# Altium integrated library Microchip Mixed Signal.IntLib: 765 symbols (part 9 of 16)
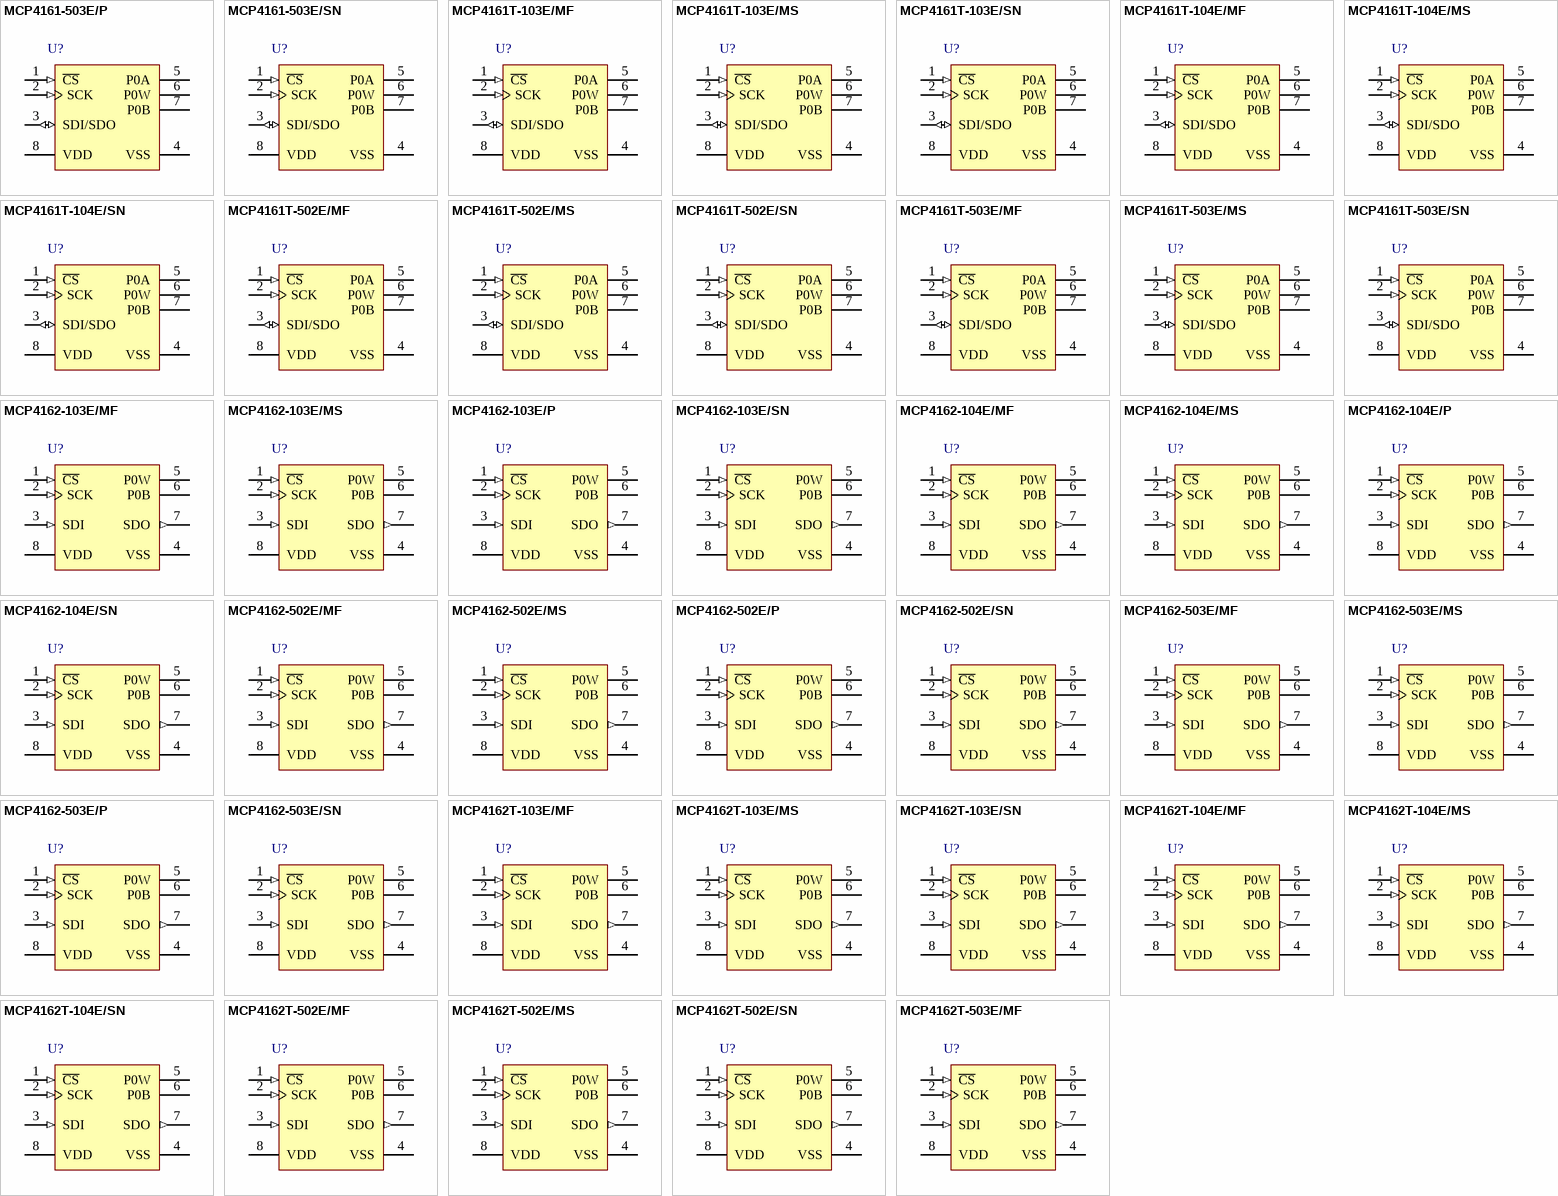
[diagram p31: symbols MCP4161-503E/P to MCP4162T-503E/MF]

## MCP4162T-502E/SN
designator U?
7/8-Bit Single/Dual SPI Digital POT with Non-Volatile Memory, 8-Pin SOIC 150mil, Extended Temperature, Tape and Reel; Published: 29-Jan-2009; DatasheetVersion: revA, Aug-2007; PackageVersion: revAW, Oct-2008; PackageReference: SOIC-SN8; Publisher: Altium Limited; Code_JEDEC: MS-012; Code_IPC: SOIC127P600-8; ComponentLink1Description: Manufacturer Link; ComponentLink1URL: http://www.microchip.com; ComponentLink2Description: Datasheet; ComponentLink2URL: http://ww1.microchip.com/downloads/en/DeviceDoc/22059a.pdf; ComponentLink3Description: Packaging Specification; ComponentLink3URL: http://ww1.microchip.com/downloads/en/PackagingSpec/00049AW.pdf
footprint SOIC-SN8_N (SOIC, 8-Leads, Body 4.9x3.8mm, Pitch 1.27mm, IPC Medium Density)
footprint SOIC-SN8_L (SOIC, 8-Leads, Body 4.9x3.8mm, Pitch 1.27mm, IPC High Density)
footprint SOIC-SN8_M (SOIC, 8-Leads, Body 4.9x3.8mm, Pitch 1.27mm, IPC Low Density)
pins: 1 ~{CS} (in), 2 SCK (in), 3 SDI (in), 4 VSS (power), 5 P0W, 6 P0B, 7 SDO (out), 8 VDD (power)

## MCP4162T-503E/MF
designator U?
7/8-Bit Single/Dual SPI Digital POT with Non-Volatile Memory, 8-Pin DFN, Extended Temperature, Tape and Reel; Published: 29-Jan-2009; DatasheetVersion: revA, Aug-2007; PackageVersion: revAW, Oct-2008; PackageReference: DFN-MF8; Publisher: Altium Limited; ComponentLink1Description: Manufacturer Link; ComponentLink1URL: http://www.microchip.com; ComponentLink2Description: Datasheet; ComponentLink2URL: http://ww1.microchip.com/downloads/en/DeviceDoc/22059a.pdf; ComponentLink3Description: Packaging Specification; ComponentLink3URL: http://ww1.microchip.com/downloads/en/PackagingSpec/00049AW.pdf
footprint DFN-MF8 (SON, 8-Leads, Body 3x3mm, Pitch 0.65mm, Microchip Recommended)
pins: 1 ~{CS} (in), 2 SCK (in), 3 SDI (in), 4 VSS (power), 5 P0W, 6 P0B, 7 SDO (out), 8 VDD (power)

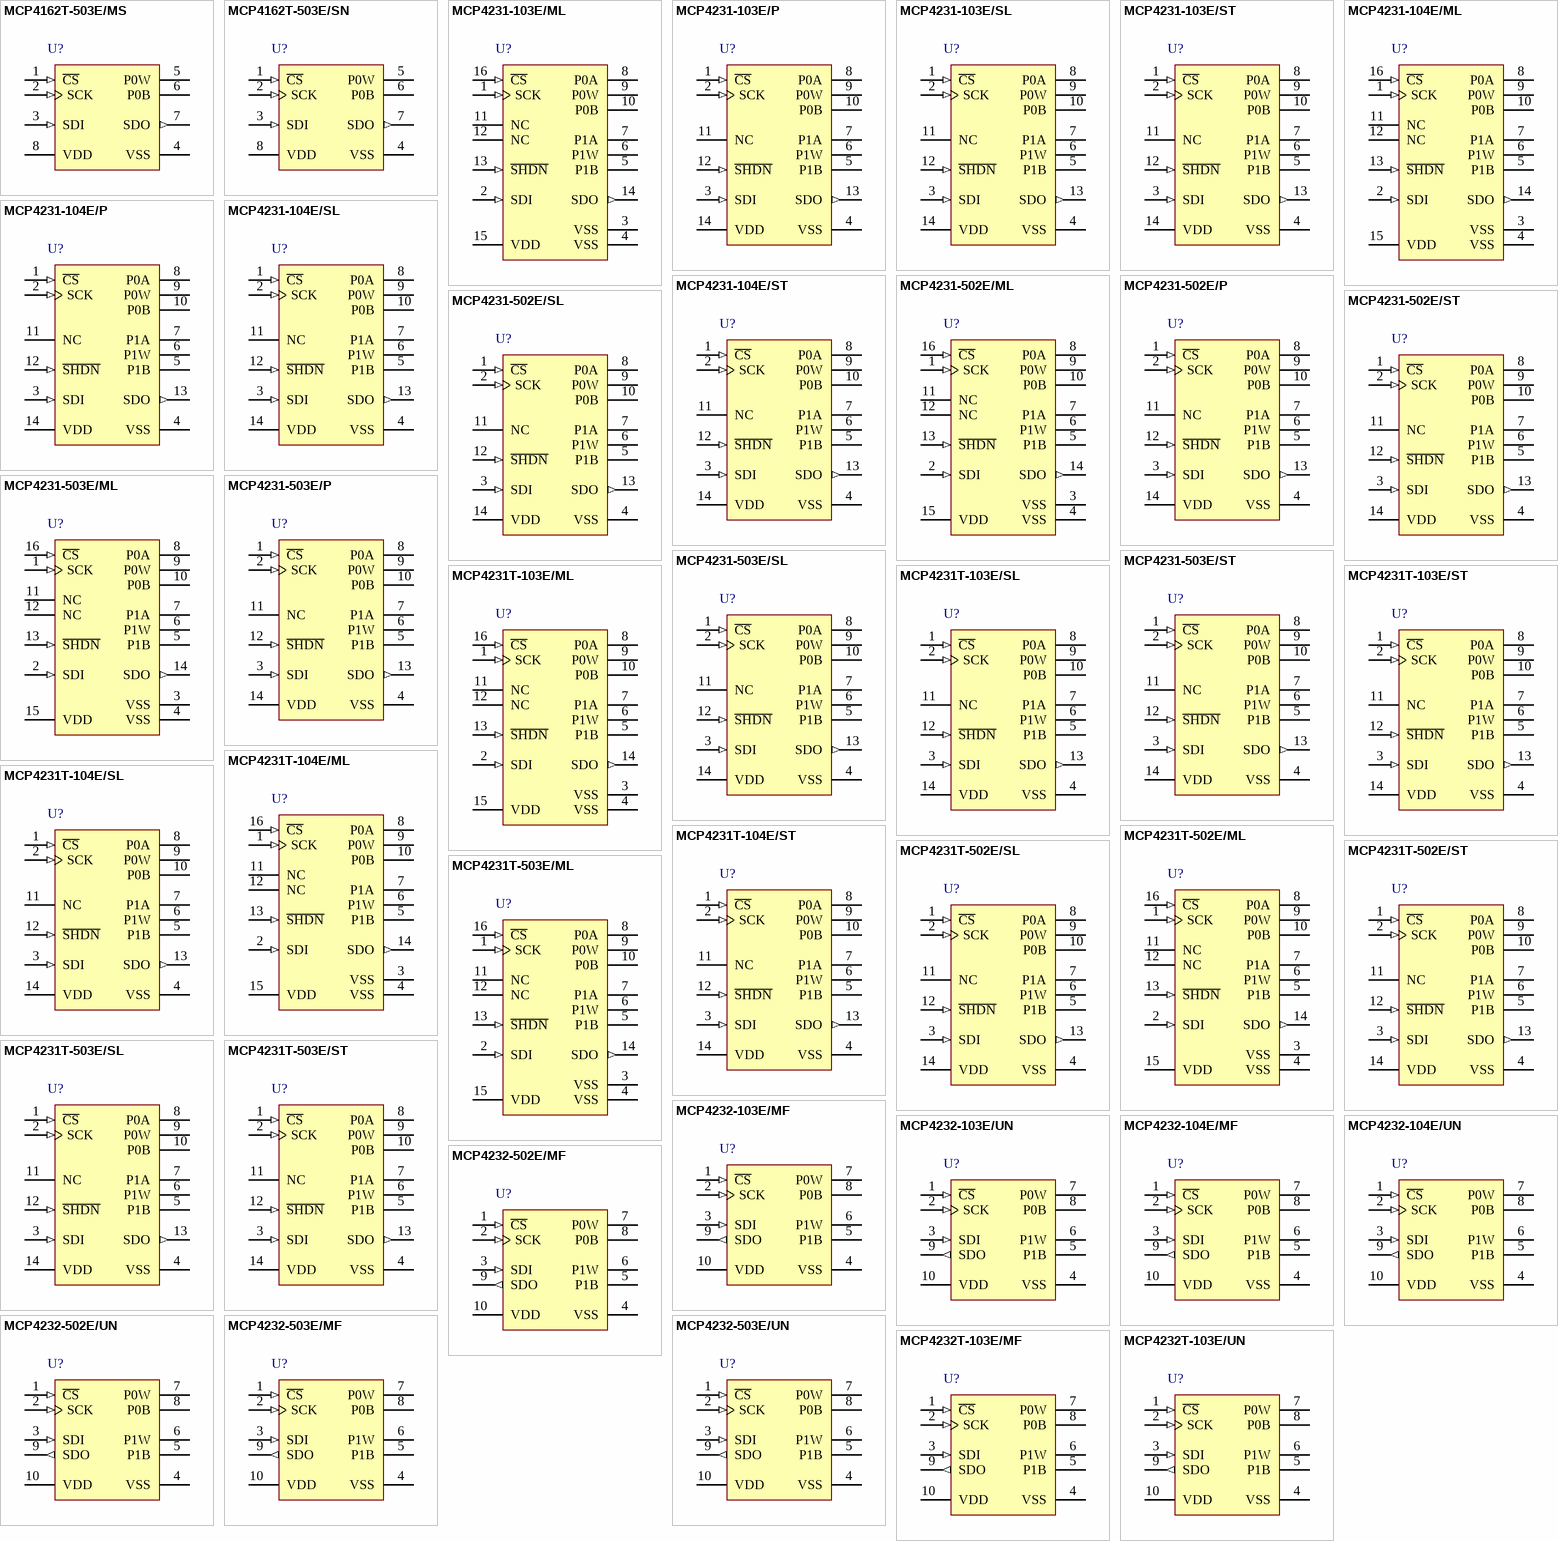
[diagram p11: symbols MCP4162T-503E/MS to MCP4232T-103E/UN]

## MCP4162T-503E/MS
designator U?
7/8-Bit Single/Dual SPI Digital POT with Non-Volatile Memory, 8-Pin MSOP, Extended Temperature, Tape and Reel; Published: 29-Jan-2009; DatasheetVersion: revA, Aug-2007; PackageVersion: revAW, Oct-2008; PackageReference: MSOP-MS8; Publisher: Altium Limited; ComponentLink1Description: Manufacturer Link; ComponentLink1URL: http://www.microchip.com; ComponentLink2Description: Datasheet; ComponentLink2URL: http://ww1.microchip.com/downloads/en/DeviceDoc/22059a.pdf; ComponentLink3Description: Packaging Specification; ComponentLink3URL: http://ww1.microchip.com/downloads/en/PackagingSpec/00049AW.pdf
footprint MSOP-MS8_N (TSOP, 8-Leads, Body 3x3mm, Pitch 0.65mm, IPC Medium Density)
footprint MSOP-MS8_L (TSOP, 8-Leads, Body 3x3mm, Pitch 0.65mm, IPC High Density)
footprint MSOP-MS8_M (TSOP, 8-Leads, Body 3x3mm, Pitch 0.65mm, IPC Low Density)
pins: 1 ~{CS} (in), 2 SCK (in), 3 SDI (in), 4 VSS (power), 5 P0W, 6 P0B, 7 SDO (out), 8 VDD (power)

## MCP4162T-503E/SN
designator U?
7/8-Bit Single/Dual SPI Digital POT with Non-Volatile Memory, 8-Pin SOIC 150mil, Extended Temperature, Tape and Reel; Published: 29-Jan-2009; DatasheetVersion: revA, Aug-2007; PackageVersion: revAW, Oct-2008; PackageReference: SOIC-SN8; Publisher: Altium Limited; Code_JEDEC: MS-012; Code_IPC: SOIC127P600-8; ComponentLink1Description: Manufacturer Link; ComponentLink1URL: http://www.microchip.com; ComponentLink2Description: Datasheet; ComponentLink2URL: http://ww1.microchip.com/downloads/en/DeviceDoc/22059a.pdf; ComponentLink3Description: Packaging Specification; ComponentLink3URL: http://ww1.microchip.com/downloads/en/PackagingSpec/00049AW.pdf
footprint SOIC-SN8_N (SOIC, 8-Leads, Body 4.9x3.8mm, Pitch 1.27mm, IPC Medium Density)
footprint SOIC-SN8_L (SOIC, 8-Leads, Body 4.9x3.8mm, Pitch 1.27mm, IPC High Density)
footprint SOIC-SN8_M (SOIC, 8-Leads, Body 4.9x3.8mm, Pitch 1.27mm, IPC Low Density)
pins: 1 ~{CS} (in), 2 SCK (in), 3 SDI (in), 4 VSS (power), 5 P0W, 6 P0B, 7 SDO (out), 8 VDD (power)

## MCP4231-103E/ML
designator U?
7/8-Bit Single/Dual SPI Digital POT with Volatile Memory, 16-Pin QFN, Extended Temperature; Published: 29-Jan-2009; DatasheetVersion: revA, Sep-2007; PackageVersion: revAW, Oct-2008; PackageReference: QFN-ML16; Publisher: Altium Limited; Code_JEDEC: MO-220; Code_IPC: QFN65P400X400-16V2; ComponentLink1Description: Manufacturer Link; ComponentLink1URL: http://www.microchip.com; ComponentLink2Description: Datasheet; ComponentLink2URL: http://ww1.microchip.com/downloads/en/DeviceDoc/22060a.pdf; ComponentLink3Description: Packaging Specification; ComponentLink3URL: http://ww1.microchip.com/downloads/en/PackagingSpec/00049AW.pdf
footprint QFN-ML16_N (QFN, 16-Leads, Body 4x4 mm, Pitch 0.65mm, IPC Medium Density)
footprint QFN-ML16_L (QFN, 16-Leads, Body 4x4 mm, Pitch 0.65mm, IPC High Density)
footprint QFN-ML16_M (QFN, 16-Leads, Body 4x4 mm, Pitch 0.65mm, IPC Low Density)
pins: 1 SCK (in), 2 SDI (in), 3 VSS (power), 4 VSS (power), 5 P1B, 6 P1W, 7 P1A, 8 P0A, 9 P0W, 10 P0B, 11 NC, 12 NC, 13 ~{SHDN} (in), 14 SDO (out), 15 VDD (power), 16 ~{CS} (in)

## MCP4231-103E/P
designator U?
7/8-Bit Single/Dual SPI Digital POT with Volatile Memory, 14-Pin PDIP, Extended Temperature; Published: 29-Jan-2009; DatasheetVersion: revA, Sep-2007; PackageVersion: revAW, Oct-2008; PackageReference: PDIP300-P14; Publisher: Altium Limited; ComponentLink1Description: Manufacturer Link; ComponentLink1URL: http://www.microchip.com; ComponentLink2Description: Datasheet; ComponentLink2URL: http://ww1.microchip.com/downloads/en/DeviceDoc/22060a.pdf; ComponentLink3Description: Packaging Specification; ComponentLink3URL: http://ww1.microchip.com/downloads/en/PackagingSpec/00049AW.pdf
footprint PDIP300-P14 (DIP, 14-Leads, Row Spacing 7.62mm, Pitch 2.54mm, Body 19.2x6.6mm)
pins: 1 ~{CS} (in), 2 SCK (in), 3 SDI (in), 4 VSS (power), 5 P1B, 6 P1W, 7 P1A, 8 P0A, 9 P0W, 10 P0B, 11 NC, 12 ~{SHDN} (in), 13 SDO (out), 14 VDD (power)

## MCP4231-103E/SL
designator U?
7/8-Bit Single/Dual SPI Digital POT with Volatile Memory, 14-Pin SOIC 150mil, Extended Temperature; Published: 29-Jan-2009; DatasheetVersion: revA, Sep-2007; PackageVersion: revAW, Oct-2008; PackageReference: SOIC-SL14; Publisher: Altium Limited; Code_JEDEC: MS-012-AB; Code_IPC: SOIC127P600-14; ComponentLink1Description: Manufacturer Link; ComponentLink1URL: http://www.microchip.com; ComponentLink2Description: Datasheet; ComponentLink2URL: http://ww1.microchip.com/downloads/en/DeviceDoc/22060a.pdf; ComponentLink3Description: Packaging Specification; ComponentLink3URL: http://ww1.microchip.com/downloads/en/PackagingSpec/00049AW.pdf
footprint SOIC-SL14_N (SOIC, 14-Leads, Body 8.7x3.9mm, Pitch 1.27mm, IPC Medium Density)
footprint SOIC-SL14_L (SOIC, 14-Leads, Body 8.7x3.9mm, Pitch 1.27mm, IPC High Density)
footprint SOIC-SL14_M (SOIC, 14-Leads, Body 8.7x3.9mm, Pitch 1.27mm, IPC Low Density)
pins: 1 ~{CS} (in), 2 SCK (in), 3 SDI (in), 4 VSS (power), 5 P1B, 6 P1W, 7 P1A, 8 P0A, 9 P0W, 10 P0B, 11 NC, 12 ~{SHDN} (in), 13 SDO (out), 14 VDD (power)

## MCP4231-103E/ST
designator U?
7/8-Bit Single/Dual SPI Digital POT with Volatile Memory, 14-Pin TSSOP, Extended Temperature; Published: 29-Jan-2009; DatasheetVersion: revA, Sep-2007; PackageVersion: revAW, Oct-2008; PackageReference: TSSOP-ST14; Publisher: Altium Limited; ComponentLink1Description: Manufacturer Link; ComponentLink1URL: http://www.microchip.com; ComponentLink2Description: Datasheet; ComponentLink2URL: http://ww1.microchip.com/downloads/en/DeviceDoc/22060a.pdf; ComponentLink3Description: Packaging Specification; ComponentLink3URL: http://ww1.microchip.com/downloads/en/PackagingSpec/00049AW.pdf
footprint TSSOP-ST14_N (TSOP, 14-Leads, Body 5x4.4mm, Pitch 0.65mm, IPC Medium Density)
footprint TSSOP-ST14_L (TSOP, 14-Leads, Body 5x4.4mm, Pitch 0.65mm, IPC High Density)
footprint TSSOP-ST14_M (TSOP, 14-Leads, Body 5x4.4mm, Pitch 0.65mm, IPC Low Density)
pins: 1 ~{CS} (in), 2 SCK (in), 3 SDI (in), 4 VSS (power), 5 P1B, 6 P1W, 7 P1A, 8 P0A, 9 P0W, 10 P0B, 11 NC, 12 ~{SHDN} (in), 13 SDO (out), 14 VDD (power)

## MCP4231-104E/ML
designator U?
7/8-Bit Single/Dual SPI Digital POT with Volatile Memory, 16-Pin QFN, Extended Temperature; Published: 29-Jan-2009; DatasheetVersion: revA, Sep-2007; PackageVersion: revAW, Oct-2008; PackageReference: QFN-ML16; Publisher: Altium Limited; Code_JEDEC: MO-220; Code_IPC: QFN65P400X400-16V2; ComponentLink1Description: Manufacturer Link; ComponentLink1URL: http://www.microchip.com; ComponentLink2Description: Datasheet; ComponentLink2URL: http://ww1.microchip.com/downloads/en/DeviceDoc/22060a.pdf; ComponentLink3Description: Packaging Specification; ComponentLink3URL: http://ww1.microchip.com/downloads/en/PackagingSpec/00049AW.pdf
footprint QFN-ML16_N (QFN, 16-Leads, Body 4x4 mm, Pitch 0.65mm, IPC Medium Density)
footprint QFN-ML16_L (QFN, 16-Leads, Body 4x4 mm, Pitch 0.65mm, IPC High Density)
footprint QFN-ML16_M (QFN, 16-Leads, Body 4x4 mm, Pitch 0.65mm, IPC Low Density)
pins: 1 SCK (in), 2 SDI (in), 3 VSS (power), 4 VSS (power), 5 P1B, 6 P1W, 7 P1A, 8 P0A, 9 P0W, 10 P0B, 11 NC, 12 NC, 13 ~{SHDN} (in), 14 SDO (out), 15 VDD (power), 16 ~{CS} (in)

## MCP4231-104E/P
designator U?
7/8-Bit Single/Dual SPI Digital POT with Volatile Memory, 14-Pin PDIP, Extended Temperature; Published: 29-Jan-2009; DatasheetVersion: revA, Sep-2007; PackageVersion: revAW, Oct-2008; PackageReference: PDIP300-P14; Publisher: Altium Limited; ComponentLink1Description: Manufacturer Link; ComponentLink1URL: http://www.microchip.com; ComponentLink2Description: Datasheet; ComponentLink2URL: http://ww1.microchip.com/downloads/en/DeviceDoc/22060a.pdf; ComponentLink3Description: Packaging Specification; ComponentLink3URL: http://ww1.microchip.com/downloads/en/PackagingSpec/00049AW.pdf
footprint PDIP300-P14 (DIP, 14-Leads, Row Spacing 7.62mm, Pitch 2.54mm, Body 19.2x6.6mm)
pins: 1 ~{CS} (in), 2 SCK (in), 3 SDI (in), 4 VSS (power), 5 P1B, 6 P1W, 7 P1A, 8 P0A, 9 P0W, 10 P0B, 11 NC, 12 ~{SHDN} (in), 13 SDO (out), 14 VDD (power)

## MCP4231-104E/SL
designator U?
7/8-Bit Single/Dual SPI Digital POT with Volatile Memory, 14-Pin SOIC 150mil, Extended Temperature; Published: 29-Jan-2009; DatasheetVersion: revA, Sep-2007; PackageVersion: revAW, Oct-2008; PackageReference: SOIC-SL14; Publisher: Altium Limited; Code_JEDEC: MS-012-AB; Code_IPC: SOIC127P600-14; ComponentLink1Description: Manufacturer Link; ComponentLink1URL: http://www.microchip.com; ComponentLink2Description: Datasheet; ComponentLink2URL: http://ww1.microchip.com/downloads/en/DeviceDoc/22060a.pdf; ComponentLink3Description: Packaging Specification; ComponentLink3URL: http://ww1.microchip.com/downloads/en/PackagingSpec/00049AW.pdf
footprint SOIC-SL14_N (SOIC, 14-Leads, Body 8.7x3.9mm, Pitch 1.27mm, IPC Medium Density)
footprint SOIC-SL14_L (SOIC, 14-Leads, Body 8.7x3.9mm, Pitch 1.27mm, IPC High Density)
footprint SOIC-SL14_M (SOIC, 14-Leads, Body 8.7x3.9mm, Pitch 1.27mm, IPC Low Density)
pins: 1 ~{CS} (in), 2 SCK (in), 3 SDI (in), 4 VSS (power), 5 P1B, 6 P1W, 7 P1A, 8 P0A, 9 P0W, 10 P0B, 11 NC, 12 ~{SHDN} (in), 13 SDO (out), 14 VDD (power)

## MCP4231-104E/ST
designator U?
7/8-Bit Single/Dual SPI Digital POT with Volatile Memory, 14-Pin TSSOP, Extended Temperature; Published: 29-Jan-2009; DatasheetVersion: revA, Sep-2007; PackageVersion: revAW, Oct-2008; PackageReference: TSSOP-ST14; Publisher: Altium Limited; ComponentLink1Description: Manufacturer Link; ComponentLink1URL: http://www.microchip.com; ComponentLink2Description: Datasheet; ComponentLink2URL: http://ww1.microchip.com/downloads/en/DeviceDoc/22060a.pdf; ComponentLink3Description: Packaging Specification; ComponentLink3URL: http://ww1.microchip.com/downloads/en/PackagingSpec/00049AW.pdf
footprint TSSOP-ST14_N (TSOP, 14-Leads, Body 5x4.4mm, Pitch 0.65mm, IPC Medium Density)
footprint TSSOP-ST14_L (TSOP, 14-Leads, Body 5x4.4mm, Pitch 0.65mm, IPC High Density)
footprint TSSOP-ST14_M (TSOP, 14-Leads, Body 5x4.4mm, Pitch 0.65mm, IPC Low Density)
pins: 1 ~{CS} (in), 2 SCK (in), 3 SDI (in), 4 VSS (power), 5 P1B, 6 P1W, 7 P1A, 8 P0A, 9 P0W, 10 P0B, 11 NC, 12 ~{SHDN} (in), 13 SDO (out), 14 VDD (power)

## MCP4231-502E/ML
designator U?
7/8-Bit Single/Dual SPI Digital POT with Volatile Memory, 16-Pin QFN, Extended Temperature; Published: 29-Jan-2009; DatasheetVersion: revA, Sep-2007; PackageVersion: revAW, Oct-2008; PackageReference: QFN-ML16; Publisher: Altium Limited; Code_JEDEC: MO-220; Code_IPC: QFN65P400X400-16V2; ComponentLink1Description: Manufacturer Link; ComponentLink1URL: http://www.microchip.com; ComponentLink2Description: Datasheet; ComponentLink2URL: http://ww1.microchip.com/downloads/en/DeviceDoc/22060a.pdf; ComponentLink3Description: Packaging Specification; ComponentLink3URL: http://ww1.microchip.com/downloads/en/PackagingSpec/00049AW.pdf
footprint QFN-ML16_N (QFN, 16-Leads, Body 4x4 mm, Pitch 0.65mm, IPC Medium Density)
footprint QFN-ML16_L (QFN, 16-Leads, Body 4x4 mm, Pitch 0.65mm, IPC High Density)
footprint QFN-ML16_M (QFN, 16-Leads, Body 4x4 mm, Pitch 0.65mm, IPC Low Density)
pins: 1 SCK (in), 2 SDI (in), 3 VSS (power), 4 VSS (power), 5 P1B, 6 P1W, 7 P1A, 8 P0A, 9 P0W, 10 P0B, 11 NC, 12 NC, 13 ~{SHDN} (in), 14 SDO (out), 15 VDD (power), 16 ~{CS} (in)

## MCP4231-502E/P
designator U?
7/8-Bit Single/Dual SPI Digital POT with Volatile Memory, 14-Pin PDIP, Extended Temperature; Published: 29-Jan-2009; DatasheetVersion: revA, Sep-2007; PackageVersion: revAW, Oct-2008; PackageReference: PDIP300-P14; Publisher: Altium Limited; ComponentLink1Description: Manufacturer Link; ComponentLink1URL: http://www.microchip.com; ComponentLink2Description: Datasheet; ComponentLink2URL: http://ww1.microchip.com/downloads/en/DeviceDoc/22060a.pdf; ComponentLink3Description: Packaging Specification; ComponentLink3URL: http://ww1.microchip.com/downloads/en/PackagingSpec/00049AW.pdf
footprint PDIP300-P14 (DIP, 14-Leads, Row Spacing 7.62mm, Pitch 2.54mm, Body 19.2x6.6mm)
pins: 1 ~{CS} (in), 2 SCK (in), 3 SDI (in), 4 VSS (power), 5 P1B, 6 P1W, 7 P1A, 8 P0A, 9 P0W, 10 P0B, 11 NC, 12 ~{SHDN} (in), 13 SDO (out), 14 VDD (power)

## MCP4231-502E/SL
designator U?
7/8-Bit Single/Dual SPI Digital POT with Volatile Memory, 14-Pin SOIC 150mil, Extended Temperature; Published: 29-Jan-2009; DatasheetVersion: revA, Sep-2007; PackageVersion: revAW, Oct-2008; PackageReference: SOIC-SL14; Publisher: Altium Limited; Code_JEDEC: MS-012-AB; Code_IPC: SOIC127P600-14; ComponentLink1Description: Manufacturer Link; ComponentLink1URL: http://www.microchip.com; ComponentLink2Description: Datasheet; ComponentLink2URL: http://ww1.microchip.com/downloads/en/DeviceDoc/22060a.pdf; ComponentLink3Description: Packaging Specification; ComponentLink3URL: http://ww1.microchip.com/downloads/en/PackagingSpec/00049AW.pdf
footprint SOIC-SL14_N (SOIC, 14-Leads, Body 8.7x3.9mm, Pitch 1.27mm, IPC Medium Density)
footprint SOIC-SL14_L (SOIC, 14-Leads, Body 8.7x3.9mm, Pitch 1.27mm, IPC High Density)
footprint SOIC-SL14_M (SOIC, 14-Leads, Body 8.7x3.9mm, Pitch 1.27mm, IPC Low Density)
pins: 1 ~{CS} (in), 2 SCK (in), 3 SDI (in), 4 VSS (power), 5 P1B, 6 P1W, 7 P1A, 8 P0A, 9 P0W, 10 P0B, 11 NC, 12 ~{SHDN} (in), 13 SDO (out), 14 VDD (power)

## MCP4231-502E/ST
designator U?
7/8-Bit Single/Dual SPI Digital POT with Volatile Memory, 14-Pin TSSOP, Extended Temperature; Published: 29-Jan-2009; DatasheetVersion: revA, Sep-2007; PackageVersion: revAW, Oct-2008; PackageReference: TSSOP-ST14; Publisher: Altium Limited; ComponentLink1Description: Manufacturer Link; ComponentLink1URL: http://www.microchip.com; ComponentLink2Description: Datasheet; ComponentLink2URL: http://ww1.microchip.com/downloads/en/DeviceDoc/22060a.pdf; ComponentLink3Description: Packaging Specification; ComponentLink3URL: http://ww1.microchip.com/downloads/en/PackagingSpec/00049AW.pdf
footprint TSSOP-ST14_N (TSOP, 14-Leads, Body 5x4.4mm, Pitch 0.65mm, IPC Medium Density)
footprint TSSOP-ST14_L (TSOP, 14-Leads, Body 5x4.4mm, Pitch 0.65mm, IPC High Density)
footprint TSSOP-ST14_M (TSOP, 14-Leads, Body 5x4.4mm, Pitch 0.65mm, IPC Low Density)
pins: 1 ~{CS} (in), 2 SCK (in), 3 SDI (in), 4 VSS (power), 5 P1B, 6 P1W, 7 P1A, 8 P0A, 9 P0W, 10 P0B, 11 NC, 12 ~{SHDN} (in), 13 SDO (out), 14 VDD (power)

## MCP4231-503E/ML
designator U?
7/8-Bit Single/Dual SPI Digital POT with Volatile Memory, 16-Pin QFN, Extended Temperature; Published: 29-Jan-2009; DatasheetVersion: revA, Sep-2007; PackageVersion: revAW, Oct-2008; PackageReference: QFN-ML16; Publisher: Altium Limited; Code_JEDEC: MO-220; Code_IPC: QFN65P400X400-16V2; ComponentLink1Description: Manufacturer Link; ComponentLink1URL: http://www.microchip.com; ComponentLink2Description: Datasheet; ComponentLink2URL: http://ww1.microchip.com/downloads/en/DeviceDoc/22060a.pdf; ComponentLink3Description: Packaging Specification; ComponentLink3URL: http://ww1.microchip.com/downloads/en/PackagingSpec/00049AW.pdf
footprint QFN-ML16_N (QFN, 16-Leads, Body 4x4 mm, Pitch 0.65mm, IPC Medium Density)
footprint QFN-ML16_L (QFN, 16-Leads, Body 4x4 mm, Pitch 0.65mm, IPC High Density)
footprint QFN-ML16_M (QFN, 16-Leads, Body 4x4 mm, Pitch 0.65mm, IPC Low Density)
pins: 1 SCK (in), 2 SDI (in), 3 VSS (power), 4 VSS (power), 5 P1B, 6 P1W, 7 P1A, 8 P0A, 9 P0W, 10 P0B, 11 NC, 12 NC, 13 ~{SHDN} (in), 14 SDO (out), 15 VDD (power), 16 ~{CS} (in)

## MCP4231-503E/P
designator U?
7/8-Bit Single/Dual SPI Digital POT with Volatile Memory, 14-Pin PDIP, Extended Temperature; Published: 29-Jan-2009; DatasheetVersion: revA, Sep-2007; PackageVersion: revAW, Oct-2008; PackageReference: PDIP300-P14; Publisher: Altium Limited; ComponentLink1Description: Manufacturer Link; ComponentLink1URL: http://www.microchip.com; ComponentLink2Description: Datasheet; ComponentLink2URL: http://ww1.microchip.com/downloads/en/DeviceDoc/22060a.pdf; ComponentLink3Description: Packaging Specification; ComponentLink3URL: http://ww1.microchip.com/downloads/en/PackagingSpec/00049AW.pdf
footprint PDIP300-P14 (DIP, 14-Leads, Row Spacing 7.62mm, Pitch 2.54mm, Body 19.2x6.6mm)
pins: 1 ~{CS} (in), 2 SCK (in), 3 SDI (in), 4 VSS (power), 5 P1B, 6 P1W, 7 P1A, 8 P0A, 9 P0W, 10 P0B, 11 NC, 12 ~{SHDN} (in), 13 SDO (out), 14 VDD (power)

## MCP4231-503E/SL
designator U?
7/8-Bit Single/Dual SPI Digital POT with Volatile Memory, 14-Pin SOIC 150mil, Extended Temperature; Published: 29-Jan-2009; DatasheetVersion: revA, Sep-2007; PackageVersion: revAW, Oct-2008; PackageReference: SOIC-SL14; Publisher: Altium Limited; Code_JEDEC: MS-012-AB; Code_IPC: SOIC127P600-14; ComponentLink1Description: Manufacturer Link; ComponentLink1URL: http://www.microchip.com; ComponentLink2Description: Datasheet; ComponentLink2URL: http://ww1.microchip.com/downloads/en/DeviceDoc/22060a.pdf; ComponentLink3Description: Packaging Specification; ComponentLink3URL: http://ww1.microchip.com/downloads/en/PackagingSpec/00049AW.pdf
footprint SOIC-SL14_N (SOIC, 14-Leads, Body 8.7x3.9mm, Pitch 1.27mm, IPC Medium Density)
footprint SOIC-SL14_L (SOIC, 14-Leads, Body 8.7x3.9mm, Pitch 1.27mm, IPC High Density)
footprint SOIC-SL14_M (SOIC, 14-Leads, Body 8.7x3.9mm, Pitch 1.27mm, IPC Low Density)
pins: 1 ~{CS} (in), 2 SCK (in), 3 SDI (in), 4 VSS (power), 5 P1B, 6 P1W, 7 P1A, 8 P0A, 9 P0W, 10 P0B, 11 NC, 12 ~{SHDN} (in), 13 SDO (out), 14 VDD (power)

## MCP4231-503E/ST
designator U?
7/8-Bit Single/Dual SPI Digital POT with Volatile Memory, 14-Pin TSSOP, Extended Temperature; Published: 29-Jan-2009; DatasheetVersion: revA, Sep-2007; PackageVersion: revAW, Oct-2008; PackageReference: TSSOP-ST14; Publisher: Altium Limited; ComponentLink1Description: Manufacturer Link; ComponentLink1URL: http://www.microchip.com; ComponentLink2Description: Datasheet; ComponentLink2URL: http://ww1.microchip.com/downloads/en/DeviceDoc/22060a.pdf; ComponentLink3Description: Packaging Specification; ComponentLink3URL: http://ww1.microchip.com/downloads/en/PackagingSpec/00049AW.pdf
footprint TSSOP-ST14_N (TSOP, 14-Leads, Body 5x4.4mm, Pitch 0.65mm, IPC Medium Density)
footprint TSSOP-ST14_L (TSOP, 14-Leads, Body 5x4.4mm, Pitch 0.65mm, IPC High Density)
footprint TSSOP-ST14_M (TSOP, 14-Leads, Body 5x4.4mm, Pitch 0.65mm, IPC Low Density)
pins: 1 ~{CS} (in), 2 SCK (in), 3 SDI (in), 4 VSS (power), 5 P1B, 6 P1W, 7 P1A, 8 P0A, 9 P0W, 10 P0B, 11 NC, 12 ~{SHDN} (in), 13 SDO (out), 14 VDD (power)

## MCP4231T-103E/ML
designator U?
7/8-Bit Single/Dual SPI Digital POT with Volatile Memory, 16-Pin QFN, Extended Temperature, Tape and Reel; Published: 29-Jan-2009; DatasheetVersion: revA, Sep-2007; PackageVersion: revAW, Oct-2008; PackageReference: QFN-ML16; Publisher: Altium Limited; Code_JEDEC: MO-220; Code_IPC: QFN65P400X400-16V2; ComponentLink1Description: Manufacturer Link; ComponentLink1URL: http://www.microchip.com; ComponentLink2Description: Datasheet; ComponentLink2URL: http://ww1.microchip.com/downloads/en/DeviceDoc/22060a.pdf; ComponentLink3Description: Packaging Specification; ComponentLink3URL: http://ww1.microchip.com/downloads/en/PackagingSpec/00049AW.pdf
footprint QFN-ML16_N (QFN, 16-Leads, Body 4x4 mm, Pitch 0.65mm, IPC Medium Density)
footprint QFN-ML16_L (QFN, 16-Leads, Body 4x4 mm, Pitch 0.65mm, IPC High Density)
footprint QFN-ML16_M (QFN, 16-Leads, Body 4x4 mm, Pitch 0.65mm, IPC Low Density)
pins: 1 SCK (in), 2 SDI (in), 3 VSS (power), 4 VSS (power), 5 P1B, 6 P1W, 7 P1A, 8 P0A, 9 P0W, 10 P0B, 11 NC, 12 NC, 13 ~{SHDN} (in), 14 SDO (out), 15 VDD (power), 16 ~{CS} (in)

## MCP4231T-103E/SL
designator U?
7/8-Bit Single/Dual SPI Digital POT with Volatile Memory, 14-Pin SOIC 150mil, Extended Temperature, Tape and Reel; Published: 29-Jan-2009; DatasheetVersion: revA, Sep-2007; PackageVersion: revAW, Oct-2008; PackageReference: SOIC-SL14; Publisher: Altium Limited; Code_JEDEC: MS-012-AB; Code_IPC: SOIC127P600-14; ComponentLink1Description: Manufacturer Link; ComponentLink1URL: http://www.microchip.com; ComponentLink2Description: Datasheet; ComponentLink2URL: http://ww1.microchip.com/downloads/en/DeviceDoc/22060a.pdf; ComponentLink3Description: Packaging Specification; ComponentLink3URL: http://ww1.microchip.com/downloads/en/PackagingSpec/00049AW.pdf
footprint SOIC-SL14_N (SOIC, 14-Leads, Body 8.7x3.9mm, Pitch 1.27mm, IPC Medium Density)
footprint SOIC-SL14_L (SOIC, 14-Leads, Body 8.7x3.9mm, Pitch 1.27mm, IPC High Density)
footprint SOIC-SL14_M (SOIC, 14-Leads, Body 8.7x3.9mm, Pitch 1.27mm, IPC Low Density)
pins: 1 ~{CS} (in), 2 SCK (in), 3 SDI (in), 4 VSS (power), 5 P1B, 6 P1W, 7 P1A, 8 P0A, 9 P0W, 10 P0B, 11 NC, 12 ~{SHDN} (in), 13 SDO (out), 14 VDD (power)

## MCP4231T-103E/ST
designator U?
7/8-Bit Single/Dual SPI Digital POT with Volatile Memory, 14-Pin TSSOP, Extended Temperature, Tape and Reel; Published: 29-Jan-2009; DatasheetVersion: revA, Sep-2007; PackageVersion: revAW, Oct-2008; PackageReference: TSSOP-ST14; Publisher: Altium Limited; ComponentLink1Description: Manufacturer Link; ComponentLink1URL: http://www.microchip.com; ComponentLink2Description: Datasheet; ComponentLink2URL: http://ww1.microchip.com/downloads/en/DeviceDoc/22060a.pdf; ComponentLink3Description: Packaging Specification; ComponentLink3URL: http://ww1.microchip.com/downloads/en/PackagingSpec/00049AW.pdf
footprint TSSOP-ST14_N (TSOP, 14-Leads, Body 5x4.4mm, Pitch 0.65mm, IPC Medium Density)
footprint TSSOP-ST14_L (TSOP, 14-Leads, Body 5x4.4mm, Pitch 0.65mm, IPC High Density)
footprint TSSOP-ST14_M (TSOP, 14-Leads, Body 5x4.4mm, Pitch 0.65mm, IPC Low Density)
pins: 1 ~{CS} (in), 2 SCK (in), 3 SDI (in), 4 VSS (power), 5 P1B, 6 P1W, 7 P1A, 8 P0A, 9 P0W, 10 P0B, 11 NC, 12 ~{SHDN} (in), 13 SDO (out), 14 VDD (power)

## MCP4231T-104E/ML
designator U?
7/8-Bit Single/Dual SPI Digital POT with Volatile Memory, 16-Pin QFN, Extended Temperature, Tape and Reel; Published: 29-Jan-2009; DatasheetVersion: revA, Sep-2007; PackageVersion: revAW, Oct-2008; PackageReference: QFN-ML16; Publisher: Altium Limited; Code_JEDEC: MO-220; Code_IPC: QFN65P400X400-16V2; ComponentLink1Description: Manufacturer Link; ComponentLink1URL: http://www.microchip.com; ComponentLink2Description: Datasheet; ComponentLink2URL: http://ww1.microchip.com/downloads/en/DeviceDoc/22060a.pdf; ComponentLink3Description: Packaging Specification; ComponentLink3URL: http://ww1.microchip.com/downloads/en/PackagingSpec/00049AW.pdf
footprint QFN-ML16_N (QFN, 16-Leads, Body 4x4 mm, Pitch 0.65mm, IPC Medium Density)
footprint QFN-ML16_L (QFN, 16-Leads, Body 4x4 mm, Pitch 0.65mm, IPC High Density)
footprint QFN-ML16_M (QFN, 16-Leads, Body 4x4 mm, Pitch 0.65mm, IPC Low Density)
pins: 1 SCK (in), 2 SDI (in), 3 VSS (power), 4 VSS (power), 5 P1B, 6 P1W, 7 P1A, 8 P0A, 9 P0W, 10 P0B, 11 NC, 12 NC, 13 ~{SHDN} (in), 14 SDO (out), 15 VDD (power), 16 ~{CS} (in)

## MCP4231T-104E/SL
designator U?
7/8-Bit Single/Dual SPI Digital POT with Volatile Memory, 14-Pin SOIC 150mil, Extended Temperature, Tape and Reel; Published: 29-Jan-2009; DatasheetVersion: revA, Sep-2007; PackageVersion: revAW, Oct-2008; PackageReference: SOIC-SL14; Publisher: Altium Limited; Code_JEDEC: MS-012-AB; Code_IPC: SOIC127P600-14; ComponentLink1Description: Manufacturer Link; ComponentLink1URL: http://www.microchip.com; ComponentLink2Description: Datasheet; ComponentLink2URL: http://ww1.microchip.com/downloads/en/DeviceDoc/22060a.pdf; ComponentLink3Description: Packaging Specification; ComponentLink3URL: http://ww1.microchip.com/downloads/en/PackagingSpec/00049AW.pdf
footprint SOIC-SL14_N (SOIC, 14-Leads, Body 8.7x3.9mm, Pitch 1.27mm, IPC Medium Density)
footprint SOIC-SL14_L (SOIC, 14-Leads, Body 8.7x3.9mm, Pitch 1.27mm, IPC High Density)
footprint SOIC-SL14_M (SOIC, 14-Leads, Body 8.7x3.9mm, Pitch 1.27mm, IPC Low Density)
pins: 1 ~{CS} (in), 2 SCK (in), 3 SDI (in), 4 VSS (power), 5 P1B, 6 P1W, 7 P1A, 8 P0A, 9 P0W, 10 P0B, 11 NC, 12 ~{SHDN} (in), 13 SDO (out), 14 VDD (power)

## MCP4231T-104E/ST
designator U?
7/8-Bit Single/Dual SPI Digital POT with Volatile Memory, 14-Pin TSSOP, Extended Temperature, Tape and Reel; Published: 29-Jan-2009; DatasheetVersion: revA, Sep-2007; PackageVersion: revAW, Oct-2008; PackageReference: TSSOP-ST14; Publisher: Altium Limited; ComponentLink1Description: Manufacturer Link; ComponentLink1URL: http://www.microchip.com; ComponentLink2Description: Datasheet; ComponentLink2URL: http://ww1.microchip.com/downloads/en/DeviceDoc/22060a.pdf; ComponentLink3Description: Packaging Specification; ComponentLink3URL: http://ww1.microchip.com/downloads/en/PackagingSpec/00049AW.pdf
footprint TSSOP-ST14_N (TSOP, 14-Leads, Body 5x4.4mm, Pitch 0.65mm, IPC Medium Density)
footprint TSSOP-ST14_L (TSOP, 14-Leads, Body 5x4.4mm, Pitch 0.65mm, IPC High Density)
footprint TSSOP-ST14_M (TSOP, 14-Leads, Body 5x4.4mm, Pitch 0.65mm, IPC Low Density)
pins: 1 ~{CS} (in), 2 SCK (in), 3 SDI (in), 4 VSS (power), 5 P1B, 6 P1W, 7 P1A, 8 P0A, 9 P0W, 10 P0B, 11 NC, 12 ~{SHDN} (in), 13 SDO (out), 14 VDD (power)

## MCP4231T-502E/ML
designator U?
7/8-Bit Single/Dual SPI Digital POT with Volatile Memory, 16-Pin QFN, Extended Temperature, Tape and Reel; Published: 29-Jan-2009; DatasheetVersion: revA, Sep-2007; PackageVersion: revAW, Oct-2008; PackageReference: QFN-ML16; Publisher: Altium Limited; Code_JEDEC: MO-220; Code_IPC: QFN65P400X400-16V2; ComponentLink1Description: Manufacturer Link; ComponentLink1URL: http://www.microchip.com; ComponentLink2Description: Datasheet; ComponentLink2URL: http://ww1.microchip.com/downloads/en/DeviceDoc/22060a.pdf; ComponentLink3Description: Packaging Specification; ComponentLink3URL: http://ww1.microchip.com/downloads/en/PackagingSpec/00049AW.pdf
footprint QFN-ML16_N (QFN, 16-Leads, Body 4x4 mm, Pitch 0.65mm, IPC Medium Density)
footprint QFN-ML16_L (QFN, 16-Leads, Body 4x4 mm, Pitch 0.65mm, IPC High Density)
footprint QFN-ML16_M (QFN, 16-Leads, Body 4x4 mm, Pitch 0.65mm, IPC Low Density)
pins: 1 SCK (in), 2 SDI (in), 3 VSS (power), 4 VSS (power), 5 P1B, 6 P1W, 7 P1A, 8 P0A, 9 P0W, 10 P0B, 11 NC, 12 NC, 13 ~{SHDN} (in), 14 SDO (out), 15 VDD (power), 16 ~{CS} (in)

## MCP4231T-502E/SL
designator U?
7/8-Bit Single/Dual SPI Digital POT with Volatile Memory, 14-Pin SOIC 150mil, Extended Temperature, Tape and Reel; Published: 29-Jan-2009; DatasheetVersion: revA, Sep-2007; PackageVersion: revAW, Oct-2008; PackageReference: SOIC-SL14; Publisher: Altium Limited; Code_JEDEC: MS-012-AB; Code_IPC: SOIC127P600-14; ComponentLink1Description: Manufacturer Link; ComponentLink1URL: http://www.microchip.com; ComponentLink2Description: Datasheet; ComponentLink2URL: http://ww1.microchip.com/downloads/en/DeviceDoc/22060a.pdf; ComponentLink3Description: Packaging Specification; ComponentLink3URL: http://ww1.microchip.com/downloads/en/PackagingSpec/00049AW.pdf
footprint SOIC-SL14_N (SOIC, 14-Leads, Body 8.7x3.9mm, Pitch 1.27mm, IPC Medium Density)
footprint SOIC-SL14_L (SOIC, 14-Leads, Body 8.7x3.9mm, Pitch 1.27mm, IPC High Density)
footprint SOIC-SL14_M (SOIC, 14-Leads, Body 8.7x3.9mm, Pitch 1.27mm, IPC Low Density)
pins: 1 ~{CS} (in), 2 SCK (in), 3 SDI (in), 4 VSS (power), 5 P1B, 6 P1W, 7 P1A, 8 P0A, 9 P0W, 10 P0B, 11 NC, 12 ~{SHDN} (in), 13 SDO (out), 14 VDD (power)

## MCP4231T-502E/ST
designator U?
7/8-Bit Single/Dual SPI Digital POT with Volatile Memory, 14-Pin TSSOP, Extended Temperature, Tape and Reel; Published: 29-Jan-2009; DatasheetVersion: revA, Sep-2007; PackageVersion: revAW, Oct-2008; PackageReference: TSSOP-ST14; Publisher: Altium Limited; ComponentLink1Description: Manufacturer Link; ComponentLink1URL: http://www.microchip.com; ComponentLink2Description: Datasheet; ComponentLink2URL: http://ww1.microchip.com/downloads/en/DeviceDoc/22060a.pdf; ComponentLink3Description: Packaging Specification; ComponentLink3URL: http://ww1.microchip.com/downloads/en/PackagingSpec/00049AW.pdf
footprint TSSOP-ST14_N (TSOP, 14-Leads, Body 5x4.4mm, Pitch 0.65mm, IPC Medium Density)
footprint TSSOP-ST14_L (TSOP, 14-Leads, Body 5x4.4mm, Pitch 0.65mm, IPC High Density)
footprint TSSOP-ST14_M (TSOP, 14-Leads, Body 5x4.4mm, Pitch 0.65mm, IPC Low Density)
pins: 1 ~{CS} (in), 2 SCK (in), 3 SDI (in), 4 VSS (power), 5 P1B, 6 P1W, 7 P1A, 8 P0A, 9 P0W, 10 P0B, 11 NC, 12 ~{SHDN} (in), 13 SDO (out), 14 VDD (power)

## MCP4231T-503E/ML
designator U?
7/8-Bit Single/Dual SPI Digital POT with Volatile Memory, 16-Pin QFN, Extended Temperature, Tape and Reel; Published: 29-Jan-2009; DatasheetVersion: revA, Sep-2007; PackageVersion: revAW, Oct-2008; PackageReference: QFN-ML16; Publisher: Altium Limited; Code_JEDEC: MO-220; Code_IPC: QFN65P400X400-16V2; ComponentLink1Description: Manufacturer Link; ComponentLink1URL: http://www.microchip.com; ComponentLink2Description: Datasheet; ComponentLink2URL: http://ww1.microchip.com/downloads/en/DeviceDoc/22060a.pdf; ComponentLink3Description: Packaging Specification; ComponentLink3URL: http://ww1.microchip.com/downloads/en/PackagingSpec/00049AW.pdf
footprint QFN-ML16_N (QFN, 16-Leads, Body 4x4 mm, Pitch 0.65mm, IPC Medium Density)
footprint QFN-ML16_L (QFN, 16-Leads, Body 4x4 mm, Pitch 0.65mm, IPC High Density)
footprint QFN-ML16_M (QFN, 16-Leads, Body 4x4 mm, Pitch 0.65mm, IPC Low Density)
pins: 1 SCK (in), 2 SDI (in), 3 VSS (power), 4 VSS (power), 5 P1B, 6 P1W, 7 P1A, 8 P0A, 9 P0W, 10 P0B, 11 NC, 12 NC, 13 ~{SHDN} (in), 14 SDO (out), 15 VDD (power), 16 ~{CS} (in)

## MCP4231T-503E/SL
designator U?
7/8-Bit Single/Dual SPI Digital POT with Volatile Memory, 14-Pin SOIC 150mil, Extended Temperature, Tape and Reel; Published: 29-Jan-2009; DatasheetVersion: revA, Sep-2007; PackageVersion: revAW, Oct-2008; PackageReference: SOIC-SL14; Publisher: Altium Limited; Code_JEDEC: MS-012-AB; Code_IPC: SOIC127P600-14; ComponentLink1Description: Manufacturer Link; ComponentLink1URL: http://www.microchip.com; ComponentLink2Description: Datasheet; ComponentLink2URL: http://ww1.microchip.com/downloads/en/DeviceDoc/22060a.pdf; ComponentLink3Description: Packaging Specification; ComponentLink3URL: http://ww1.microchip.com/downloads/en/PackagingSpec/00049AW.pdf
footprint SOIC-SL14_N (SOIC, 14-Leads, Body 8.7x3.9mm, Pitch 1.27mm, IPC Medium Density)
footprint SOIC-SL14_L (SOIC, 14-Leads, Body 8.7x3.9mm, Pitch 1.27mm, IPC High Density)
footprint SOIC-SL14_M (SOIC, 14-Leads, Body 8.7x3.9mm, Pitch 1.27mm, IPC Low Density)
pins: 1 ~{CS} (in), 2 SCK (in), 3 SDI (in), 4 VSS (power), 5 P1B, 6 P1W, 7 P1A, 8 P0A, 9 P0W, 10 P0B, 11 NC, 12 ~{SHDN} (in), 13 SDO (out), 14 VDD (power)

## MCP4231T-503E/ST
designator U?
7/8-Bit Single/Dual SPI Digital POT with Volatile Memory, 14-Pin TSSOP, Extended Temperature, Tape and Reel; Published: 29-Jan-2009; DatasheetVersion: revA, Sep-2007; PackageVersion: revAW, Oct-2008; PackageReference: TSSOP-ST14; Publisher: Altium Limited; ComponentLink1Description: Manufacturer Link; ComponentLink1URL: http://www.microchip.com; ComponentLink2Description: Datasheet; ComponentLink2URL: http://ww1.microchip.com/downloads/en/DeviceDoc/22060a.pdf; ComponentLink3Description: Packaging Specification; ComponentLink3URL: http://ww1.microchip.com/downloads/en/PackagingSpec/00049AW.pdf
footprint TSSOP-ST14_N (TSOP, 14-Leads, Body 5x4.4mm, Pitch 0.65mm, IPC Medium Density)
footprint TSSOP-ST14_L (TSOP, 14-Leads, Body 5x4.4mm, Pitch 0.65mm, IPC High Density)
footprint TSSOP-ST14_M (TSOP, 14-Leads, Body 5x4.4mm, Pitch 0.65mm, IPC Low Density)
pins: 1 ~{CS} (in), 2 SCK (in), 3 SDI (in), 4 VSS (power), 5 P1B, 6 P1W, 7 P1A, 8 P0A, 9 P0W, 10 P0B, 11 NC, 12 ~{SHDN} (in), 13 SDO (out), 14 VDD (power)

## MCP4232-103E/MF
designator U?
7/8-Bit Single/Dual SPI Digital POT with Volatile Memory, 10-Pin DFN, Extended Temperature; Published: 29-Jan-2009; DatasheetVersion: revA, Sep-2007; PackageVersion: revAW, Oct-2008; PackageReference: DFN-MF10; Publisher: Altium Limited; ComponentLink1Description: Manufacturer Link; ComponentLink1URL: http://www.microchip.com; ComponentLink2Description: Datasheet; ComponentLink2URL: http://ww1.microchip.com/downloads/en/DeviceDoc/22060a.pdf; ComponentLink3Description: Packaging Specification; ComponentLink3URL: http://ww1.microchip.com/downloads/en/PackagingSpec/00049AW.pdf
footprint DFN-MF10 (SON, 10-Leads, Body 3x3mm, Pitch 0.5mm, Microchip Recommended)
pins: 1 ~{CS} (in), 2 SCK (in), 3 SDI (in), 4 VSS (power), 5 P1B, 6 P1W, 7 P0W, 8 P0B, 9 SDO (out), 10 VDD (power)

## MCP4232-103E/UN
designator U?
7/8-Bit Single/Dual SPI Digital POT with Volatile Memory, 10-Pin MSOP, Extended Temperature; Published: 29-Jan-2009; DatasheetVersion: revA, Sep-2007; PackageVersion: revAW, Oct-2008; PackageReference: MSOP-UN10; Publisher: Altium Limited; ComponentLink1Description: Manufacturer Link; ComponentLink1URL: http://www.microchip.com; ComponentLink2Description: Datasheet; ComponentLink2URL: http://ww1.microchip.com/downloads/en/DeviceDoc/22060a.pdf; ComponentLink3Description: Packaging Specification; ComponentLink3URL: http://ww1.microchip.com/downloads/en/PackagingSpec/00049AW.pdf
footprint MSOP-UN10_N (TSSOP, 10-Leads, Body 3x3mm, Pitch 0.5mm, IPC Medium Density)
footprint MSOP-UN10_L (TSSOP, 10-Leads, Body 3x3mm, Pitch 0.5mm, IPC High Density)
footprint MSOP-UN10_M (TSSOP, 10-Leads, Body 3x3mm, Pitch 0.5mm, IPC Low Density)
pins: 1 ~{CS} (in), 2 SCK (in), 3 SDI (in), 4 VSS (power), 5 P1B, 6 P1W, 7 P0W, 8 P0B, 9 SDO (out), 10 VDD (power)

## MCP4232-104E/MF
designator U?
7/8-Bit Single/Dual SPI Digital POT with Volatile Memory, 10-Pin DFN, Extended Temperature; Published: 29-Jan-2009; DatasheetVersion: revA, Sep-2007; PackageVersion: revAW, Oct-2008; PackageReference: DFN-MF10; Publisher: Altium Limited; ComponentLink1Description: Manufacturer Link; ComponentLink1URL: http://www.microchip.com; ComponentLink2Description: Datasheet; ComponentLink2URL: http://ww1.microchip.com/downloads/en/DeviceDoc/22060a.pdf; ComponentLink3Description: Packaging Specification; ComponentLink3URL: http://ww1.microchip.com/downloads/en/PackagingSpec/00049AW.pdf
footprint DFN-MF10 (SON, 10-Leads, Body 3x3mm, Pitch 0.5mm, Microchip Recommended)
pins: 1 ~{CS} (in), 2 SCK (in), 3 SDI (in), 4 VSS (power), 5 P1B, 6 P1W, 7 P0W, 8 P0B, 9 SDO (out), 10 VDD (power)

## MCP4232-104E/UN
designator U?
7/8-Bit Single/Dual SPI Digital POT with Volatile Memory, 10-Pin MSOP, Extended Temperature; Published: 29-Jan-2009; DatasheetVersion: revA, Sep-2007; PackageVersion: revAW, Oct-2008; PackageReference: MSOP-UN10; Publisher: Altium Limited; ComponentLink1Description: Manufacturer Link; ComponentLink1URL: http://www.microchip.com; ComponentLink2Description: Datasheet; ComponentLink2URL: http://ww1.microchip.com/downloads/en/DeviceDoc/22060a.pdf; ComponentLink3Description: Packaging Specification; ComponentLink3URL: http://ww1.microchip.com/downloads/en/PackagingSpec/00049AW.pdf
footprint MSOP-UN10_N (TSSOP, 10-Leads, Body 3x3mm, Pitch 0.5mm, IPC Medium Density)
footprint MSOP-UN10_L (TSSOP, 10-Leads, Body 3x3mm, Pitch 0.5mm, IPC High Density)
footprint MSOP-UN10_M (TSSOP, 10-Leads, Body 3x3mm, Pitch 0.5mm, IPC Low Density)
pins: 1 ~{CS} (in), 2 SCK (in), 3 SDI (in), 4 VSS (power), 5 P1B, 6 P1W, 7 P0W, 8 P0B, 9 SDO (out), 10 VDD (power)

## MCP4232-502E/MF
designator U?
7/8-Bit Single/Dual SPI Digital POT with Volatile Memory, 10-Pin DFN, Extended Temperature; Published: 29-Jan-2009; DatasheetVersion: revA, Sep-2007; PackageVersion: revAW, Oct-2008; PackageReference: DFN-MF10; Publisher: Altium Limited; ComponentLink1Description: Manufacturer Link; ComponentLink1URL: http://www.microchip.com; ComponentLink2Description: Datasheet; ComponentLink2URL: http://ww1.microchip.com/downloads/en/DeviceDoc/22060a.pdf; ComponentLink3Description: Packaging Specification; ComponentLink3URL: http://ww1.microchip.com/downloads/en/PackagingSpec/00049AW.pdf
footprint DFN-MF10 (SON, 10-Leads, Body 3x3mm, Pitch 0.5mm, Microchip Recommended)
pins: 1 ~{CS} (in), 2 SCK (in), 3 SDI (in), 4 VSS (power), 5 P1B, 6 P1W, 7 P0W, 8 P0B, 9 SDO (out), 10 VDD (power)

## MCP4232-502E/UN
designator U?
7/8-Bit Single/Dual SPI Digital POT with Volatile Memory, 10-Pin MSOP, Extended Temperature; Published: 29-Jan-2009; DatasheetVersion: revA, Sep-2007; PackageVersion: revAW, Oct-2008; PackageReference: MSOP-UN10; Publisher: Altium Limited; ComponentLink1Description: Manufacturer Link; ComponentLink1URL: http://www.microchip.com; ComponentLink2Description: Datasheet; ComponentLink2URL: http://ww1.microchip.com/downloads/en/DeviceDoc/22060a.pdf; ComponentLink3Description: Packaging Specification; ComponentLink3URL: http://ww1.microchip.com/downloads/en/PackagingSpec/00049AW.pdf
footprint MSOP-UN10_N (TSSOP, 10-Leads, Body 3x3mm, Pitch 0.5mm, IPC Medium Density)
footprint MSOP-UN10_L (TSSOP, 10-Leads, Body 3x3mm, Pitch 0.5mm, IPC High Density)
footprint MSOP-UN10_M (TSSOP, 10-Leads, Body 3x3mm, Pitch 0.5mm, IPC Low Density)
pins: 1 ~{CS} (in), 2 SCK (in), 3 SDI (in), 4 VSS (power), 5 P1B, 6 P1W, 7 P0W, 8 P0B, 9 SDO (out), 10 VDD (power)

## MCP4232-503E/MF
designator U?
7/8-Bit Single/Dual SPI Digital POT with Volatile Memory, 10-Pin DFN, Extended Temperature; Published: 29-Jan-2009; DatasheetVersion: revA, Sep-2007; PackageVersion: revAW, Oct-2008; PackageReference: DFN-MF10; Publisher: Altium Limited; ComponentLink1Description: Manufacturer Link; ComponentLink1URL: http://www.microchip.com; ComponentLink2Description: Datasheet; ComponentLink2URL: http://ww1.microchip.com/downloads/en/DeviceDoc/22060a.pdf; ComponentLink3Description: Packaging Specification; ComponentLink3URL: http://ww1.microchip.com/downloads/en/PackagingSpec/00049AW.pdf
footprint DFN-MF10 (SON, 10-Leads, Body 3x3mm, Pitch 0.5mm, Microchip Recommended)
pins: 1 ~{CS} (in), 2 SCK (in), 3 SDI (in), 4 VSS (power), 5 P1B, 6 P1W, 7 P0W, 8 P0B, 9 SDO (out), 10 VDD (power)

## MCP4232-503E/UN
designator U?
7/8-Bit Single/Dual SPI Digital POT with Volatile Memory, 10-Pin MSOP, Extended Temperature; Published: 29-Jan-2009; DatasheetVersion: revA, Sep-2007; PackageVersion: revAW, Oct-2008; PackageReference: MSOP-UN10; Publisher: Altium Limited; ComponentLink1Description: Manufacturer Link; ComponentLink1URL: http://www.microchip.com; ComponentLink2Description: Datasheet; ComponentLink2URL: http://ww1.microchip.com/downloads/en/DeviceDoc/22060a.pdf; ComponentLink3Description: Packaging Specification; ComponentLink3URL: http://ww1.microchip.com/downloads/en/PackagingSpec/00049AW.pdf
footprint MSOP-UN10_N (TSSOP, 10-Leads, Body 3x3mm, Pitch 0.5mm, IPC Medium Density)
footprint MSOP-UN10_L (TSSOP, 10-Leads, Body 3x3mm, Pitch 0.5mm, IPC High Density)
footprint MSOP-UN10_M (TSSOP, 10-Leads, Body 3x3mm, Pitch 0.5mm, IPC Low Density)
pins: 1 ~{CS} (in), 2 SCK (in), 3 SDI (in), 4 VSS (power), 5 P1B, 6 P1W, 7 P0W, 8 P0B, 9 SDO (out), 10 VDD (power)

## MCP4232T-103E/MF
designator U?
7/8-Bit Single/Dual SPI Digital POT with Volatile Memory, 10-Pin DFN, Extended Temperature, Tape and Reel; Published: 29-Jan-2009; DatasheetVersion: revA, Sep-2007; PackageVersion: revAW, Oct-2008; PackageReference: DFN-MF10; Publisher: Altium Limited; ComponentLink1Description: Manufacturer Link; ComponentLink1URL: http://www.microchip.com; ComponentLink2Description: Datasheet; ComponentLink2URL: http://ww1.microchip.com/downloads/en/DeviceDoc/22060a.pdf; ComponentLink3Description: Packaging Specification; ComponentLink3URL: http://ww1.microchip.com/downloads/en/PackagingSpec/00049AW.pdf
footprint DFN-MF10 (SON, 10-Leads, Body 3x3mm, Pitch 0.5mm, Microchip Recommended)
pins: 1 ~{CS} (in), 2 SCK (in), 3 SDI (in), 4 VSS (power), 5 P1B, 6 P1W, 7 P0W, 8 P0B, 9 SDO (out), 10 VDD (power)

## MCP4232T-103E/UN
designator U?
7/8-Bit Single/Dual SPI Digital POT with Volatile Memory, 10-Pin MSOP, Extended Temperature, Tape and Reel; Published: 29-Jan-2009; DatasheetVersion: revA, Sep-2007; PackageVersion: revAW, Oct-2008; PackageReference: MSOP-UN10; Publisher: Altium Limited; ComponentLink1Description: Manufacturer Link; ComponentLink1URL: http://www.microchip.com; ComponentLink2Description: Datasheet; ComponentLink2URL: http://ww1.microchip.com/downloads/en/DeviceDoc/22060a.pdf; ComponentLink3Description: Packaging Specification; ComponentLink3URL: http://ww1.microchip.com/downloads/en/PackagingSpec/00049AW.pdf
footprint MSOP-UN10_N (TSSOP, 10-Leads, Body 3x3mm, Pitch 0.5mm, IPC Medium Density)
footprint MSOP-UN10_L (TSSOP, 10-Leads, Body 3x3mm, Pitch 0.5mm, IPC High Density)
footprint MSOP-UN10_M (TSSOP, 10-Leads, Body 3x3mm, Pitch 0.5mm, IPC Low Density)
pins: 1 ~{CS} (in), 2 SCK (in), 3 SDI (in), 4 VSS (power), 5 P1B, 6 P1W, 7 P0W, 8 P0B, 9 SDO (out), 10 VDD (power)

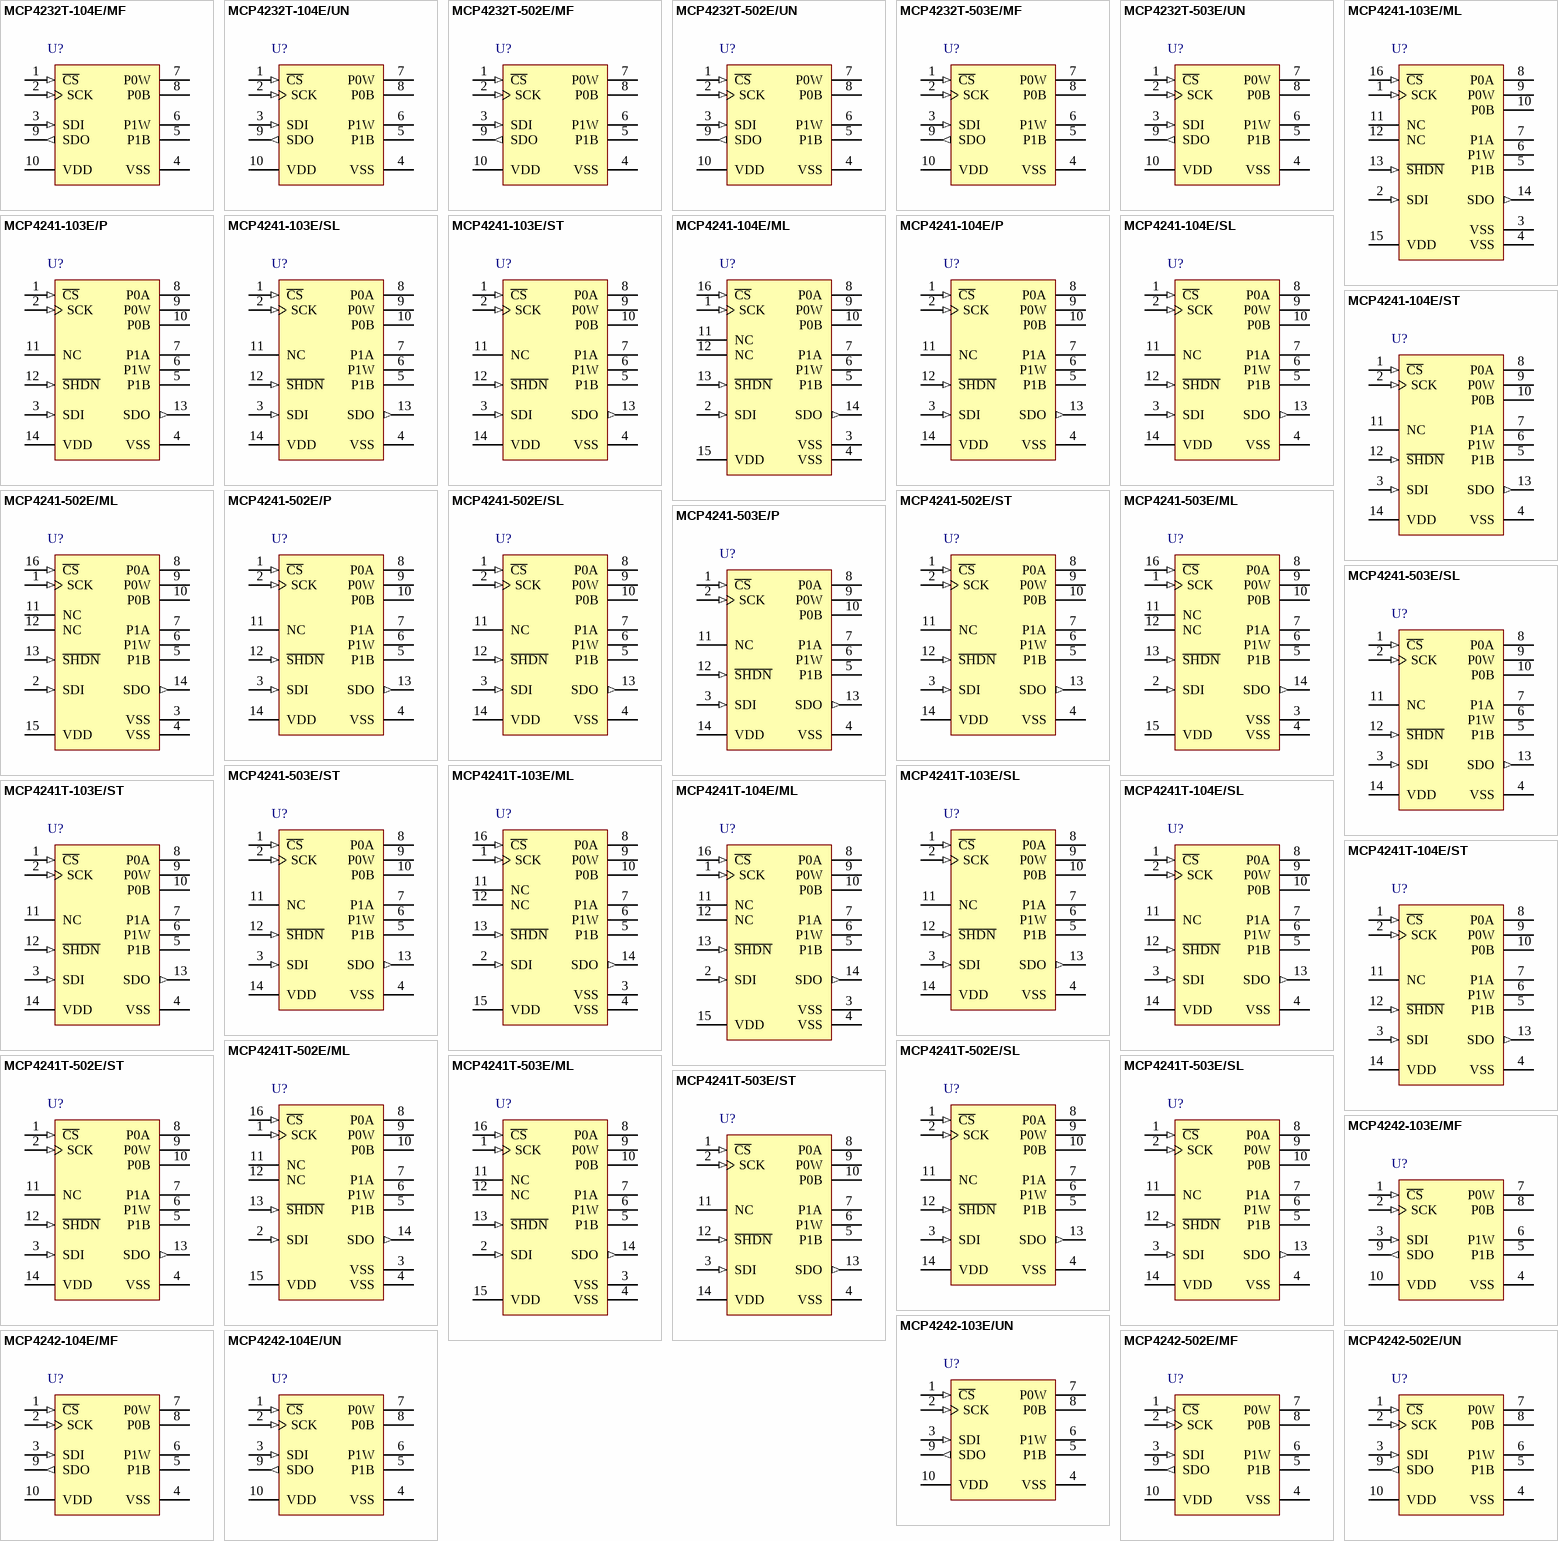
[diagram p12: symbols MCP4232T-104E/MF to MCP4242-502E/UN]

## MCP4232T-104E/MF
designator U?
7/8-Bit Single/Dual SPI Digital POT with Volatile Memory, 10-Pin DFN, Extended Temperature, Tape and Reel; Published: 29-Jan-2009; DatasheetVersion: revA, Sep-2007; PackageVersion: revAW, Oct-2008; PackageReference: DFN-MF10; Publisher: Altium Limited; ComponentLink1Description: Manufacturer Link; ComponentLink1URL: http://www.microchip.com; ComponentLink2Description: Datasheet; ComponentLink2URL: http://ww1.microchip.com/downloads/en/DeviceDoc/22060a.pdf; ComponentLink3Description: Packaging Specification; ComponentLink3URL: http://ww1.microchip.com/downloads/en/PackagingSpec/00049AW.pdf
footprint DFN-MF10 (SON, 10-Leads, Body 3x3mm, Pitch 0.5mm, Microchip Recommended)
pins: 1 ~{CS} (in), 2 SCK (in), 3 SDI (in), 4 VSS (power), 5 P1B, 6 P1W, 7 P0W, 8 P0B, 9 SDO (out), 10 VDD (power)

## MCP4232T-104E/UN
designator U?
7/8-Bit Single/Dual SPI Digital POT with Volatile Memory, 10-Pin MSOP, Extended Temperature, Tape and Reel; Published: 29-Jan-2009; DatasheetVersion: revA, Sep-2007; PackageVersion: revAW, Oct-2008; PackageReference: MSOP-UN10; Publisher: Altium Limited; ComponentLink1Description: Manufacturer Link; ComponentLink1URL: http://www.microchip.com; ComponentLink2Description: Datasheet; ComponentLink2URL: http://ww1.microchip.com/downloads/en/DeviceDoc/22060a.pdf; ComponentLink3Description: Packaging Specification; ComponentLink3URL: http://ww1.microchip.com/downloads/en/PackagingSpec/00049AW.pdf
footprint MSOP-UN10_N (TSSOP, 10-Leads, Body 3x3mm, Pitch 0.5mm, IPC Medium Density)
footprint MSOP-UN10_L (TSSOP, 10-Leads, Body 3x3mm, Pitch 0.5mm, IPC High Density)
footprint MSOP-UN10_M (TSSOP, 10-Leads, Body 3x3mm, Pitch 0.5mm, IPC Low Density)
pins: 1 ~{CS} (in), 2 SCK (in), 3 SDI (in), 4 VSS (power), 5 P1B, 6 P1W, 7 P0W, 8 P0B, 9 SDO (out), 10 VDD (power)

## MCP4232T-502E/MF
designator U?
7/8-Bit Single/Dual SPI Digital POT with Volatile Memory, 10-Pin DFN, Extended Temperature, Tape and Reel; Published: 29-Jan-2009; DatasheetVersion: revA, Sep-2007; PackageVersion: revAW, Oct-2008; PackageReference: DFN-MF10; Publisher: Altium Limited; ComponentLink1Description: Manufacturer Link; ComponentLink1URL: http://www.microchip.com; ComponentLink2Description: Datasheet; ComponentLink2URL: http://ww1.microchip.com/downloads/en/DeviceDoc/22060a.pdf; ComponentLink3Description: Packaging Specification; ComponentLink3URL: http://ww1.microchip.com/downloads/en/PackagingSpec/00049AW.pdf
footprint DFN-MF10 (SON, 10-Leads, Body 3x3mm, Pitch 0.5mm, Microchip Recommended)
pins: 1 ~{CS} (in), 2 SCK (in), 3 SDI (in), 4 VSS (power), 5 P1B, 6 P1W, 7 P0W, 8 P0B, 9 SDO (out), 10 VDD (power)

## MCP4232T-502E/UN
designator U?
7/8-Bit Single/Dual SPI Digital POT with Volatile Memory, 10-Pin MSOP, Extended Temperature, Tape and Reel; Published: 29-Jan-2009; DatasheetVersion: revA, Sep-2007; PackageVersion: revAW, Oct-2008; PackageReference: MSOP-UN10; Publisher: Altium Limited; ComponentLink1Description: Manufacturer Link; ComponentLink1URL: http://www.microchip.com; ComponentLink2Description: Datasheet; ComponentLink2URL: http://ww1.microchip.com/downloads/en/DeviceDoc/22060a.pdf; ComponentLink3Description: Packaging Specification; ComponentLink3URL: http://ww1.microchip.com/downloads/en/PackagingSpec/00049AW.pdf
footprint MSOP-UN10_N (TSSOP, 10-Leads, Body 3x3mm, Pitch 0.5mm, IPC Medium Density)
footprint MSOP-UN10_L (TSSOP, 10-Leads, Body 3x3mm, Pitch 0.5mm, IPC High Density)
footprint MSOP-UN10_M (TSSOP, 10-Leads, Body 3x3mm, Pitch 0.5mm, IPC Low Density)
pins: 1 ~{CS} (in), 2 SCK (in), 3 SDI (in), 4 VSS (power), 5 P1B, 6 P1W, 7 P0W, 8 P0B, 9 SDO (out), 10 VDD (power)

## MCP4232T-503E/MF
designator U?
7/8-Bit Single/Dual SPI Digital POT with Volatile Memory, 10-Pin DFN, Extended Temperature, Tape and Reel; Published: 29-Jan-2009; DatasheetVersion: revA, Sep-2007; PackageVersion: revAW, Oct-2008; PackageReference: DFN-MF10; Publisher: Altium Limited; ComponentLink1Description: Manufacturer Link; ComponentLink1URL: http://www.microchip.com; ComponentLink2Description: Datasheet; ComponentLink2URL: http://ww1.microchip.com/downloads/en/DeviceDoc/22060a.pdf; ComponentLink3Description: Packaging Specification; ComponentLink3URL: http://ww1.microchip.com/downloads/en/PackagingSpec/00049AW.pdf
footprint DFN-MF10 (SON, 10-Leads, Body 3x3mm, Pitch 0.5mm, Microchip Recommended)
pins: 1 ~{CS} (in), 2 SCK (in), 3 SDI (in), 4 VSS (power), 5 P1B, 6 P1W, 7 P0W, 8 P0B, 9 SDO (out), 10 VDD (power)

## MCP4232T-503E/UN
designator U?
7/8-Bit Single/Dual SPI Digital POT with Volatile Memory, 10-Pin MSOP, Extended Temperature, Tape and Reel; Published: 29-Jan-2009; DatasheetVersion: revA, Sep-2007; PackageVersion: revAW, Oct-2008; PackageReference: MSOP-UN10; Publisher: Altium Limited; ComponentLink1Description: Manufacturer Link; ComponentLink1URL: http://www.microchip.com; ComponentLink2Description: Datasheet; ComponentLink2URL: http://ww1.microchip.com/downloads/en/DeviceDoc/22060a.pdf; ComponentLink3Description: Packaging Specification; ComponentLink3URL: http://ww1.microchip.com/downloads/en/PackagingSpec/00049AW.pdf
footprint MSOP-UN10_N (TSSOP, 10-Leads, Body 3x3mm, Pitch 0.5mm, IPC Medium Density)
footprint MSOP-UN10_L (TSSOP, 10-Leads, Body 3x3mm, Pitch 0.5mm, IPC High Density)
footprint MSOP-UN10_M (TSSOP, 10-Leads, Body 3x3mm, Pitch 0.5mm, IPC Low Density)
pins: 1 ~{CS} (in), 2 SCK (in), 3 SDI (in), 4 VSS (power), 5 P1B, 6 P1W, 7 P0W, 8 P0B, 9 SDO (out), 10 VDD (power)

## MCP4241-103E/ML
designator U?
7/8-Bit Single/Dual SPI Digital POT with Non-Volatile Memory, 16-Pin QFN, Extended Temperature; Published: 29-Jan-2009; DatasheetVersion: revA, Aug-2007; PackageVersion: revAW, Oct-2008; PackageReference: QFN-ML16; Publisher: Altium Limited; Code_JEDEC: MO-220; Code_IPC: QFN65P400X400-16V2; ComponentLink1Description: Manufacturer Link; ComponentLink1URL: http://www.microchip.com; ComponentLink2Description: Datasheet; ComponentLink2URL: http://ww1.microchip.com/downloads/en/DeviceDoc/22059a.pdf; ComponentLink3Description: Packaging Specification; ComponentLink3URL: http://ww1.microchip.com/downloads/en/PackagingSpec/00049AW.pdf
footprint QFN-ML16_N (QFN, 16-Leads, Body 4x4 mm, Pitch 0.65mm, IPC Medium Density)
footprint QFN-ML16_L (QFN, 16-Leads, Body 4x4 mm, Pitch 0.65mm, IPC High Density)
footprint QFN-ML16_M (QFN, 16-Leads, Body 4x4 mm, Pitch 0.65mm, IPC Low Density)
pins: 1 SCK (in), 2 SDI (in), 3 VSS (power), 4 VSS (power), 5 P1B, 6 P1W, 7 P1A, 8 P0A, 9 P0W, 10 P0B, 11 NC, 12 NC, 13 ~{SHDN} (in), 14 SDO (out), 15 VDD (power), 16 ~{CS} (in)

## MCP4241-103E/P
designator U?
7/8-Bit Single/Dual SPI Digital POT with Non-Volatile Memory, 14-Pin PDIP, Extended Temperature; Published: 29-Jan-2009; DatasheetVersion: revA, Aug-2007; PackageVersion: revAW, Oct-2008; PackageReference: PDIP300-P14; Publisher: Altium Limited; ComponentLink1Description: Manufacturer Link; ComponentLink1URL: http://www.microchip.com; ComponentLink2Description: Datasheet; ComponentLink2URL: http://ww1.microchip.com/downloads/en/DeviceDoc/22059a.pdf; ComponentLink3Description: Packaging Specification; ComponentLink3URL: http://ww1.microchip.com/downloads/en/PackagingSpec/00049AW.pdf
footprint PDIP300-P14 (DIP, 14-Leads, Row Spacing 7.62mm, Pitch 2.54mm, Body 19.2x6.6mm)
pins: 1 ~{CS} (in), 2 SCK (in), 3 SDI (in), 4 VSS (power), 5 P1B, 6 P1W, 7 P1A, 8 P0A, 9 P0W, 10 P0B, 11 NC, 12 ~{SHDN} (in), 13 SDO (out), 14 VDD (power)